# Altium footprint library SOD3715X135N.PcbLib: 1 footprints
Each footprint in its own frame and in the unit in brackets; x right, y up, seen from the top. Pads: shape width x height; smd on the part's side, far side on the other; paste and mask are expansions set on the pad; w line width, h text height; cw(c..) or ccw(c..) is an arc to the next point about the centre after c.
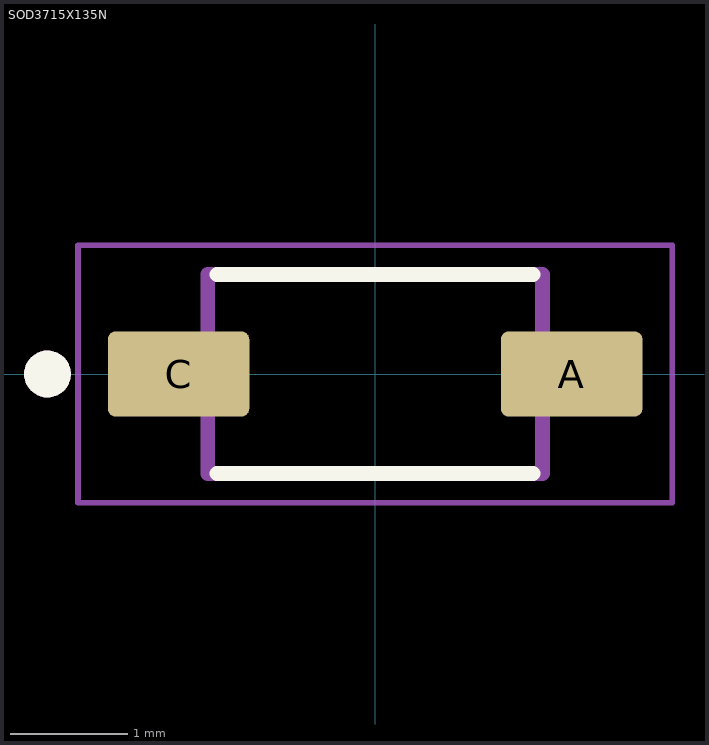
[diagram p0: the footprint, top view; thin cyan lines are the x and y axes]

## SOD3715X135N [mm]
pads (2):
  rrect18% 1.21x0.73 smd paste+0 mask+0.102: A(1.68,0) C(-1.68,0)
Top Overlay:
  circle w0.2: c-2.8,0 r0.1
  lines w0.127: -1.35,-0.85 1.35,-0.85 ; -1.35,0.85 1.35,0.85
Assembly Top:
  circle w0.2: c-2.8,0 r0.1
  lines w0.127: -1.43,-0.85 1.43,-0.85 1.43,0.85 -1.43,0.85 -1.43,-0.85
Courtyard Top:
  lines w0.05: -2.54,-1.1 2.54,-1.1 2.54,1.1 -2.54,1.1 -2.54,-1.1
3D body "step_temp.STEP": height 1.1, standoff 0.1, extent -1.905,-0.805 1.895,0.795